# EAGLE library part 87758-1216 (library lib)
12 Pin - 2mm Dual Row Single Wafer, Vertical T/H HDR Source: http://www.molex.com/pdm_docs/sd/877580616_sd.pdf
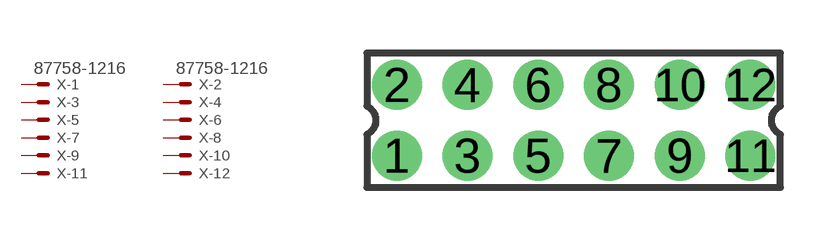
[diagram p4: symbol with the pads of 87758-1216; footprint 87758-1216]

Designator prefix X; gates -1=MV-2 -2=MV-2 -3=M-2 -4=M-2 -5=M-2 -6=M-2 -7=M-2 -8=M-2 -9=M-2 -10=M-2 -11=M-2 -12=M-2

## 87758-1216 (MF: MOLEX; MPN: 87758-1216; OC_FARNELL: unknown; OC_NEWARK: 25M5671)  [87758-1216]
1  -1:S  pas
2  -2:S  pas
3  -3:S  pas
4  -4:S  pas
5  -5:S  pas
6  -6:S  pas
7  -7:S  pas
8  -8:S  pas
9  -9:S  pas
10  -10:S  pas
11  -11:S  pas
12  -12:S  pas

## Footprint 87758-1216 (pad centres in mm)
2.00mm Pitch Milli-Grid™ Header, Through Hole, Vertical, 12 Circuits, 0.38µm Gold (Au) Selective Plating, Pocket Tray Packaging, Lead-Free Datasheet <http://www.molex.com/pdm_docs/sd/877581216_sd.pdf>
drill 0.9 pad 1.27: 1 -5,-1; 2 -5,1; 3 -3,-1; 4 -3,1; 5 -1,-1; 6 -1,1; 7 1,-1; 8 1,1; 9 3,-1; 10 3,1; 11 5,-1; 12 5,1